# Altium footprint library MEM2067-02-180-00-A.PcbLib: 1 footprints
Each footprint in its own frame and in the unit in brackets; x right, y up, seen from the top. Pads: shape width x height; smd on the part's side, far side on the other; paste and mask are expansions set on the pad; w line width, h text height; cw(c..) or ccw(c..) is an arc to the next point about the centre after c.
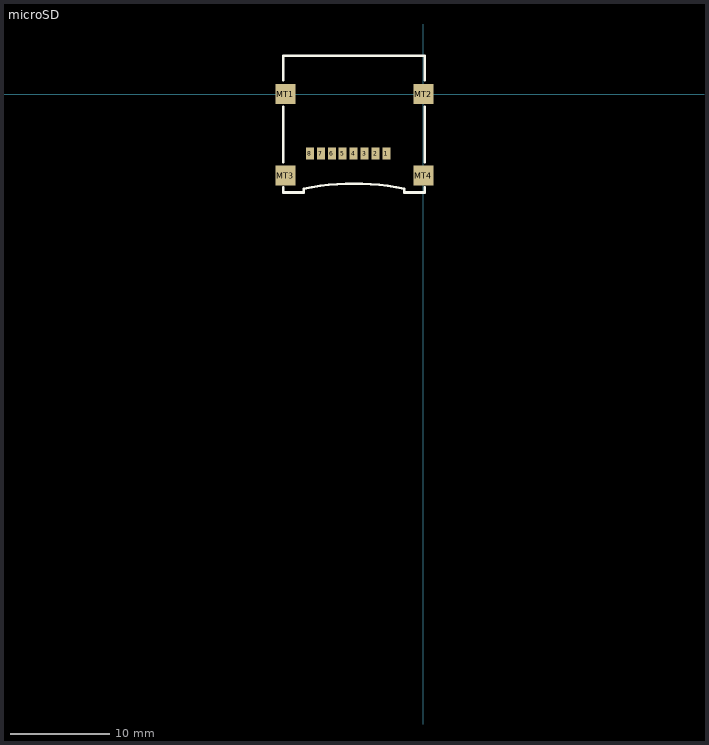
[diagram p0: the footprint, top view; thin cyan lines are the x and y axes]

## microSD [mm]
pads (12):
  rect 0.8x1.2 smd: 1(-3.72,-6) 2(-4.82,-6) 3(-5.92,-6) 4(-7.02,-6) 5(-8.12,-6) 6(-9.22,-6) 7(-10.32,-6) 8(-11.42,-6)
  rect 2x2 smd: MT1(-13.89,0) MT2(0,0) MT3(-13.89,-8.2) MT4(0,-8.2)
Top Overlay:
  lines w0.254: -14.097,-9.398 -14.097,-9.906 -12.065,-9.906 -12.065,-9.525 cw(c-6.985,-34.608) -1.905,-9.525 -1.905,-9.906 0.127,-9.906 0.127,-9.398 ; -14.097,-6.858 -14.097,-1.27 ; -14.097,1.397 -14.097,3.85 0.127,3.85 0.127,1.397 ; 0.127,-6.858 0.127,-1.27
3D body "microSD - MEM2067.stp": height 1.77, standoff 0, extent -14.3,-9.95 0.3,3.75